# Altium footprint library Optocouplers.PcbLib: 5 footprints
Each footprint in its own frame and in the unit in brackets; x right, y up, seen from the top. Pads: shape width x height; smd on the part's side, far side on the other; paste and mask are expansions set on the pad; w line width, h text height; cw(c..) or ccw(c..) is an arc to the next point about the centre after c.
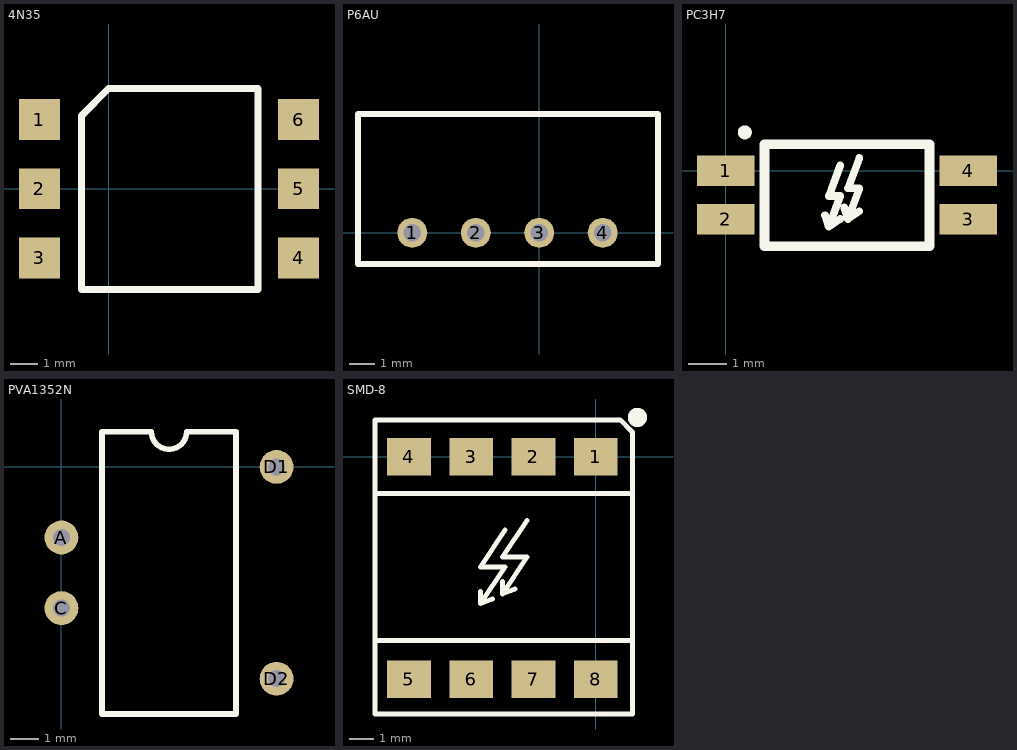
[diagram p0: the footprints below, top view; thin cyan lines are the x and y axes]

## 4N35 [mm]
pads (6):
  rect 1.5x1.5 smd: 1(-2.54,2.54) 2(-2.54,0) 3(-2.54,-2.54) 4(6.985,-2.54) 5(6.985,0) 6(6.985,2.54)
Top Overlay:
  lines w0.254: -1,-3.7 -1,2.683 0,3.683 5.5,3.683 5.5,-3.7 -1,-3.7

## P6AU [mm]
pads (4):
  round 1.2 hole 0.7: 1(-5.08,0) 2(-2.54,0) 3(0,0) 4(2.54,0)
Top Overlay:
  lines w0.254: -7.25,-1.25 4.75,-1.25 4.75,4.75 -7.25,4.75 -7.25,-1.25

## PC3H7 [mm]
pads (4):
  rect 1.5x0.8 smd: 1(0,0) 2(0,-1.27) 3(6.35,-1.27) 4(6.35,0)
Top Overlay:
  circle w0.254: c0.5,1 r0.056
  lines w0.2: 2.6,-1.167 2.7,-1.467 ; 3,-1.267 2.7,-1.467 ; 3,0.133 2.7,-0.667 3,-0.667 2.7,-1.467 ; 3.1,-0.967 3.2,-1.267 ; 3.5,-1.067 3.2,-1.267 ; 3.5,0.333 3.2,-0.467 3.5,-0.467 3.2,-1.267
  lines w0.254: 1.016,-1.981 5.334,-1.981 5.334,0.686 1.016,0.686 1.016,-1.981
3D body "User Library-PC3H7.step": height 2.1, standoff 0.05, extent -0.3,-1.9 6.7,0.7

## PVA1352N [mm]
pads (4):
  round 1.2 hole 0.6: A(0,-2.5) C(0,-5) D1(7.62,0) D2(7.62,-7.5)
Top Overlay:
  lines w0.2: 1.435,-8.75 6.185,-8.75 6.185,1.25 4.435,1.25 cw(c3.81,1.25) 3.185,1.25 1.435,1.25 1.435,-8.75

## SMD-8 [mm] "Package for SMD optocouplers"
pads (8):
  rect 1.78x1.52 smd: 1(0,0) 2(-2.54,0) 3(-5.08,0) 4(-7.62,0) 5(-7.62,-9.085) 6(-5.08,-9.085) 7(-2.54,-9.085) 8(0,-9.085)
Top Overlay:
  circle w0.5: c1.7,1.6 r0.141
  lines w0.2: -9,-7.5 1.5,-7.5 ; -9,-1.5 1.5,-1.5 ; -4.7,-5.5 -4.7,-6 ; -4.2,-5.8 -4.7,-6 ; -3.8,-5.1 -3.8,-5.6 ; -3.7,-3 -4.7,-4.5 -3.7,-4.5 -4.7,-6 ; -3.3,-5.4 -3.8,-5.6 ; -2.8,-2.6 -3.8,-4.1 -2.8,-4.1 -3.8,-5.6 ; -9,-10.5 1.5,-10.5 1.5,1 1,1.5 -9,1.5 -9,-10.5
3D body "User Library-SMD-8B.step": height 4, standoff 0, extent -8.725,-9.4 1.125,0.4